# Altium schematic symbol library ComputeCores.SCHLIB: 10 symbols
Pins are listed as number, name and electrical type; pins without a type are passive.

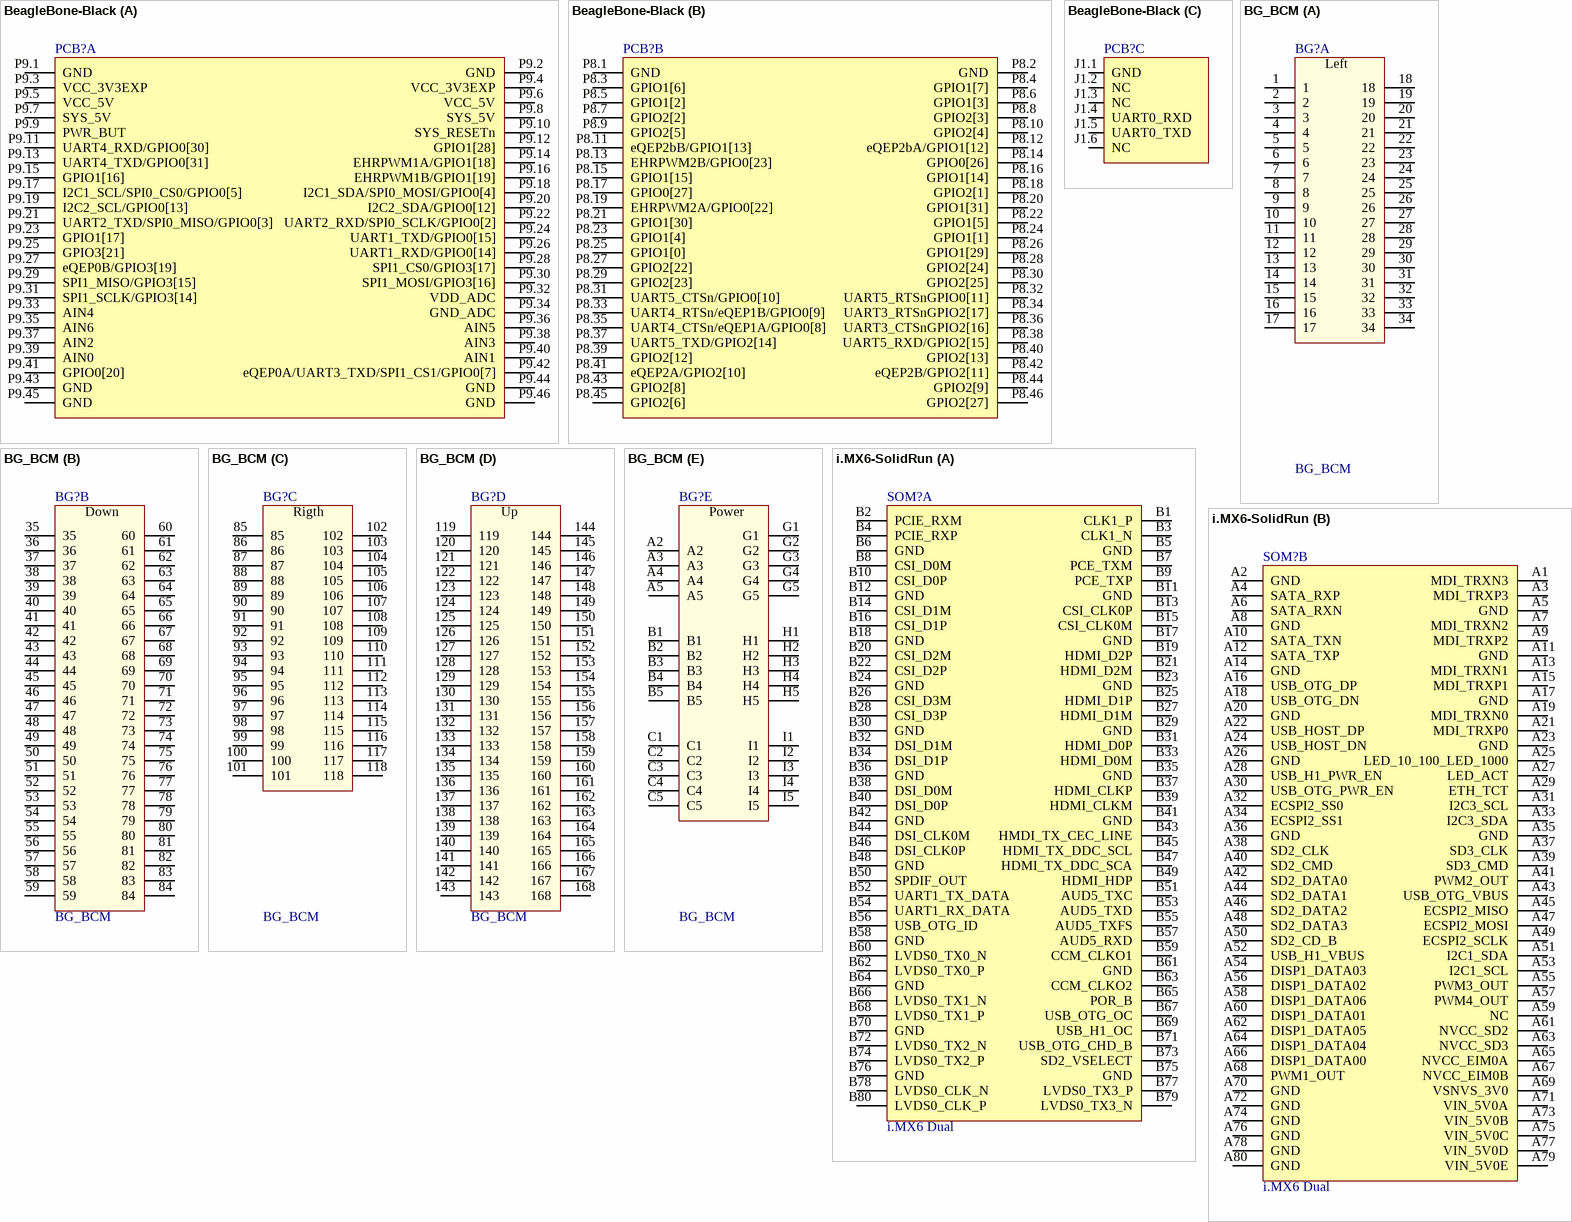
[diagram p0: symbols BeagleBone-Black to i.MX6-SolidRun]

## BeagleBone-Black
designator PCB?, comment BB-BBLK-000  (value not drawn)
BeagleBone Black Rev. C device with associated package to help create a cape. NOTE: Other considerations when making a Cape (mechanical allowances for tall BBB components, EEPROM requirements, and power ratings) can be found in the BBB System Reference Manual More information available at; Manuf1: Texas Instruments; Populated: Yes; Value: BB-BBLK-000; ROHS: Yes; ClassName: *; Code_JEDEC: *; Manuf1Partnumber: BB-BBLK-000; HelpURL: *; PackageReference: BeagleBone-Rev-C; Supplier 1: Newark; Supplier 2: Mouser; Supplier 3: Digi-Key; Supplier Part Number 1: 52X5548; Supplier Part Number 2: 595-BB-BBLK-000; Supplier Part Number 3: BB-BBLK-000-REVC-ND; LifeCycle: Checked
footprint BEAGLEBONE_BLACK
footprint BEAGLEBONE_BLACK - SMD
part A pins: P9.1 GND, P9.2 GND, P9.3 VCC_3V3EXP, P9.4 VCC_3V3EXP, P9.5 VCC_5V, P9.6 VCC_5V, P9.7 SYS_5V, P9.8 SYS_5V, P9.9 PWR_BUT, P9.10 SYS_RESETn, P9.11 UART4_RXD/GPIO0[30], P9.12 GPIO1[28], P9.13 UART4_TXD/GPIO0[31], P9.14 EHRPWM1A/GPIO1[18], P9.15 GPIO1[16], P9.16 EHRPWM1B/GPIO1[19], P9.17 I2C1_SCL/SPI0_CS0/GPIO0[5], P9.18 I2C1_SDA/SPI0_MOSI/GPIO0[4], P9.19 I2C2_SCL/GPIO0[13], P9.20 I2C2_SDA/GPIO0[12], P9.21 UART2_TXD/SPI0_MISO/GPIO0[3], P9.22 UART2_RXD/SPI0_SCLK/GPIO0[2], P9.23 GPIO1[17], P9.24 UART1_TXD/GPIO0[15], P9.25 GPIO3[21], P9.26 UART1_RXD/GPIO0[14], P9.27 eQEP0B/GPIO3[19], P9.28 SPI1_CS0/GPIO3[17], P9.29 SPI1_MISO/GPIO3[15], P9.30 SPI1_MOSI/GPIO3[16], P9.31 SPI1_SCLK/GPIO3[14], P9.32 VDD_ADC, P9.33 AIN4, P9.34 GND_ADC, P9.35 AIN6, P9.36 AIN5, P9.37 AIN2, P9.38 AIN3, P9.39 AIN0, P9.40 AIN1, P9.41 GPIO0[20], P9.42 eQEP0A/UART3_TXD/SPI1_CS1/GPIO0[7], P9.43 GND, P9.44 GND, P9.45 GND, P9.46 GND
part B pins: P8.1 GND, P8.2 GND, P8.3 GPIO1[6], P8.4 GPIO1[7], P8.5 GPIO1[2], P8.6 GPIO1[3], P8.7 GPIO2[2], P8.8 GPIO2[3], P8.9 GPIO2[5], P8.10 GPIO2[4], P8.11 eQEP2bB/GPIO1[13], P8.12 eQEP2bA/GPIO1[12], P8.13 EHRPWM2B/GPIO0[23], P8.14 GPIO0[26], P8.15 GPIO1[15], P8.16 GPIO1[14], P8.17 GPIO0[27], P8.18 GPIO2[1], P8.19 EHRPWM2A/GPIO0[22], P8.20 GPIO1[31], P8.21 GPIO1[30], P8.22 GPIO1[5], P8.23 GPIO1[4], P8.24 GPIO1[1], P8.25 GPIO1[0], P8.26 GPIO1[29], P8.27 GPIO2[22], P8.28 GPIO2[24], P8.29 GPIO2[23], P8.30 GPIO2[25], P8.31 UART5_CTSn/GPIO0[10], P8.32 UART5_RTSnGPIO0[11], P8.33 UART4_RTSn/eQEP1B/GPIO0[9], P8.34 UART3_RTSnGPIO2[17], P8.35 UART4_CTSn/eQEP1A/GPIO0[8], P8.36 UART3_CTSnGPIO2[16], P8.37 UART5_TXD/GPIO2[14], P8.38 UART5_RXD/GPIO2[15], P8.39 GPIO2[12], P8.40 GPIO2[13], P8.41 eQEP2A/GPIO2[10], P8.42 eQEP2B/GPIO2[11], P8.43 GPIO2[8], P8.44 GPIO2[9], P8.45 GPIO2[6], P8.46 GPIO2[27]
part C pins: J1.1 GND, J1.2 NC, J1.3 NC, J1.4 UART0_RXD, J1.5 UART0_TXD, J1.6 NC

## BG_BCM
designator BG?
Beaglecore; Populated: Yes; LifeCycle: Checked; ROHS: Yes; Value: BG_BCM
footprint BG_BCM (BeagleCoreModule)
part A pins: 1, 2, 3, 4, 5, 6, 7, 8, 9, 10, 11, 12, 13, 14, 15, 16, 17, 18, 19, 20, 21, 22, 23, 24, 25, 26, 27, 28, 29, 30, 31, 32, 33, 34
part B pins: 35, 36, 37, 38, 39, 40, 41, 42, 43, 44, 45, 46, 47, 48, 49, 50, 51, 52, 53, 54, 55, 56, 57, 58, 59, 60, 61, 62, 63, 64, 65, 66, 67, 68, 69, 70, 71, 72, 73, 74, 75, 76, 77, 78, 79, 80, 81, 82, 83, 84
part C pins: 85, 86, 87, 88, 89, 90, 91, 92, 93, 94, 95, 96, 97, 98, 99, 100, 101, 102, 103, 104, 105, 106, 107, 108, 109, 110, 111, 112, 113, 114, 115, 116, 117, 118
part D pins: 119, 120, 121, 122, 123, 124, 125, 126, 127, 128, 129, 130, 131, 132, 133, 134, 135, 136, 137, 138, 139, 140, 141, 142, 143, 144, 145, 146, 147, 148, 149, 150, 151, 152, 153, 154, 155, 156, 157, 158, 159, 160, 161, 162, 163, 164, 165, 166, 167, 168
part E pins: A2, A3, A4, A5, B1, B2, B3, B4, B5, C1, C2, C3, C4, C5, G1, G2, G3, G4, G5, H1, H2, H3, H4, H5, I1, I2, I3, I4, I5
part A text: Left
part B text: Down
part C text: Rigth
part D text: Up
part E text: Power

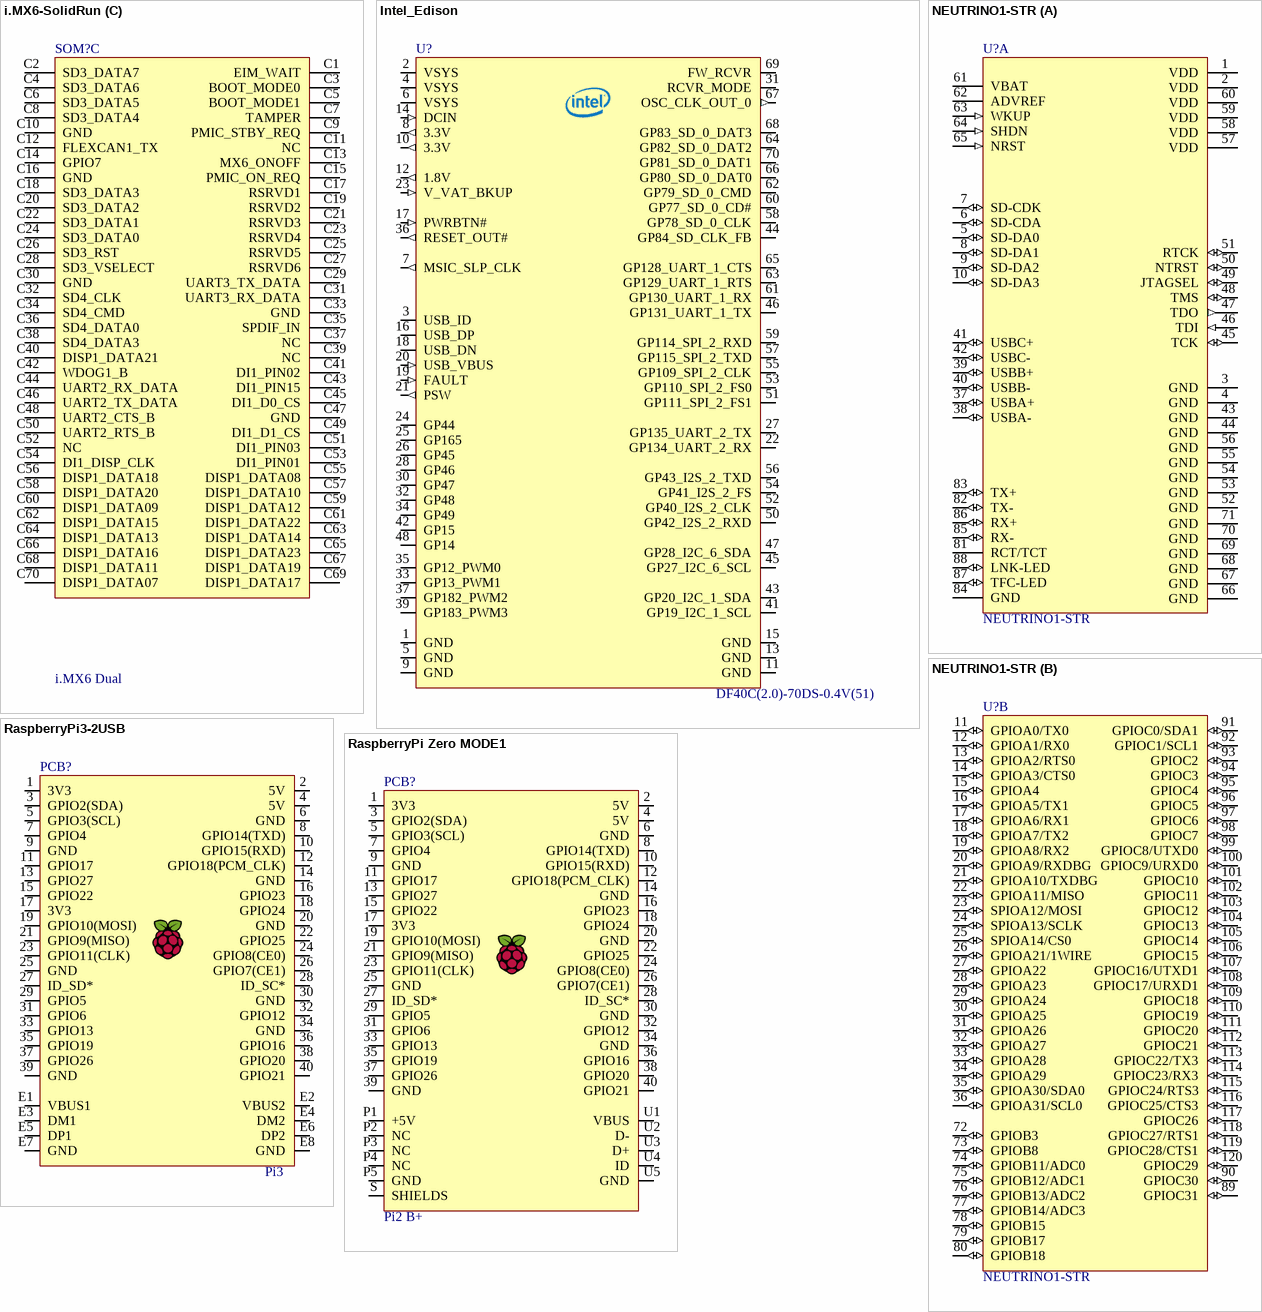
[diagram p1: symbols i.MX6-SolidRun to RaspberryPi Zero MODE1]

## i.MX6-SolidRun
designator SOM?, comment i.MX6 Dual
NXP I.MX6 SINGLE TO QUAD CORE ARM CORTEX A9 SOM; Populated: Yes; Memory: 2GB; Supplier 1: SolidRun; Value: i.MX6 Dual; ROHS: Yes; WiFi/Bluetooth: Yes; Storage: 8GB; Temperature Range: 0C to 70C; Supplier Part Number 1: SKU: SRMX6SOWT1D512E008V15C0
footprint SOLIDRUN SOM i1 - 3x80 (i.MX6 module i1 from SOLIDRUN)
part A pins: B1 CLK1_P, B2 PCIE_RXM, B3 CLK1_N, B4 PCIE_RXP, B5 GND, B6 GND, B7 PCE_TXM, B8 CSI_D0M, B9 PCE_TXP, B10 CSI_D0P, B11 GND, B12 GND, B13 CSI_CLK0P, B14 CSI_D1M, B15 CSI_CLK0M, B16 CSI_D1P, B17 GND, B18 GND, B19 HDMI_D2P, B20 CSI_D2M, B21 HDMI_D2M, B22 CSI_D2P, B23 GND, B24 GND, B25 HDMI_D1P, B26 CSI_D3M, B27 HDMI_D1M, B28 CSI_D3P, B29 GND, B30 GND, B31 HDMI_D0P, B32 DSI_D1M, B33 HDMI_D0M, B34 DSI_D1P, B35 GND, B36 GND, B37 HDMI_CLKP, B38 DSI_D0M, B39 HDMI_CLKM, B40 DSI_D0P, B41 GND, B42 GND, B43 HMDI_TX_CEC_LINE, B44 DSI_CLK0M, B45 HDMI_TX_DDC_SCL, B46 DSI_CLK0P, B47 HDMI_TX_DDC_SCA, B48 GND, B49 HDMI_HDP, B50 SPDIF_OUT, B51 AUD5_TXC, B52 UART1_TX_DATA, B53 AUD5_TXD, B54 UART1_RX_DATA, B55 AUD5_TXFS, B56 USB_OTG_ID, B57 AUD5_RXD, B58 GND, B59 CCM_CLKO1, B60 LVDS0_TX0_N, B61 GND, B62 LVDS0_TX0_P, B63 CCM_CLKO2, B64 GND, B65 POR_B, B66 LVDS0_TX1_N, B67 USB_OTG_OC, B68 LVDS0_TX1_P, B69 USB_H1_OC, B70 GND, B71 USB_OTG_CHD_B, B72 LVDS0_TX2_N, B73 SD2_VSELECT, B74 LVDS0_TX2_P, B75 GND, B76 GND, B77 LVDS0_TX3_P, B78 LVDS0_CLK_N, B79 LVDS0_TX3_N, B80 LVDS0_CLK_P
part B pins: A1 MDI_TRXN3, A2 GND, A3 MDI_TRXP3, A4 SATA_RXP, A5 GND, A6 SATA_RXN, A7 MDI_TRXN2, A8 GND, A9 MDI_TRXP2, A10 SATA_TXN, A11 GND, A12 SATA_TXP, A13 MDI_TRXN1, A14 GND, A15 MDI_TRXP1, A16 USB_OTG_DP, A17 GND, A18 USB_OTG_DN, A19 MDI_TRXN0, A20 GND, A21 MDI_TRXP0, A22 USB_HOST_DP, A23 GND, A24 USB_HOST_DN, A25 LED_10_100_LED_1000, A26 GND, A27 LED_ACT, A28 USB_H1_PWR_EN, A29 ETH_TCT, A30 USB_OTG_PWR_EN, A31 I2C3_SCL, A32 ECSPI2_SS0, A33 I2C3_SDA, A34 ECSPI2_SS1, A35 GND, A36 GND, A37 SD3_CLK, A38 SD2_CLK, A39 SD3_CMD, A40 SD2_CMD, A41 PWM2_OUT, A42 SD2_DATA0, A43 USB_OTG_VBUS, A44 SD2_DATA1, A45 ECSPI2_MISO, A46 SD2_DATA2, A47 ECSPI2_MOSI, A48 SD2_DATA3, A49 ECSPI2_SCLK, A50 SD2_CD_B, A51 I2C1_SDA, A52 USB_H1_VBUS, A53 I2C1_SCL, A54 DISP1_DATA03, A55 PWM3_OUT, A56 DISP1_DATA02, A57 PWM4_OUT, A58 DISP1_DATA06, A59 NC, A60 DISP1_DATA01, A61 NVCC_SD2, A62 DISP1_DATA05, A63 NVCC_SD3, A64 DISP1_DATA04, A65 NVCC_EIM0A, A66 DISP1_DATA00, A67 NVCC_EIM0B, A68 PWM1_OUT, A69 VSNVS_3V0, A70 GND, A71 VIN_5V0A, A72 GND, A73 VIN_5V0B, A74 GND, A75 VIN_5V0C, A76 GND, A77 VIN_5V0D, A78 GND, A79 VIN_5V0E, A80 GND
part C pins: C1 EIM_WAIT, C2 SD3_DATA7, C3 BOOT_MODE0, C4 SD3_DATA6, C5 BOOT_MODE1, C6 SD3_DATA5, C7 TAMPER, C8 SD3_DATA4, C9 PMIC_STBY_REQ, C10 GND, C11 NC, C12 FLEXCAN1_TX, C13 MX6_ONOFF, C14 GPIO7, C15 PMIC_ON_REQ, C16 GND, C17 RSRVD1, C18 SD3_DATA3, C19 RSRVD2, C20 SD3_DATA2, C21 RSRVD3, C22 SD3_DATA1, C23 RSRVD4, C24 SD3_DATA0, C25 RSRVD5, C26 SD3_RST, C27 RSRVD6, C28 SD3_VSELECT, C29 UART3_TX_DATA, C30 GND, C31 UART3_RX_DATA, C32 SD4_CLK, C33 GND, C34 SD4_CMD, C35 SPDIF_IN, C36 SD4_DATA0, C37 NC, C38 SD4_DATA3, C39 NC, C40 DISP1_DATA21, C41 DI1_PIN02, C42 WDOG1_B, C43 DI1_PIN15, C44 UART2_RX_DATA, C45 DI1_D0_CS, C46 UART2_TX_DATA, C47 GND, C48 UART2_CTS_B, C49 DI1_D1_CS, C50 UART2_RTS_B, C51 DI1_PIN03, C52 NC, C53 DI1_PIN01, C54 DI1_DISP_CLK, C55 DISP1_DATA08, C56 DISP1_DATA18, C57 DISP1_DATA10, C58 DISP1_DATA20, C59 DISP1_DATA12, C60 DISP1_DATA09, C61 DISP1_DATA22, C62 DISP1_DATA15, C63 DISP1_DATA14, C64 DISP1_DATA13, C65 DISP1_DATA23, C66 DISP1_DATA16, C67 DISP1_DATA19, C68 DISP1_DATA11, C69 DISP1_DATA17 (power), C70 DISP1_DATA07

## Intel_Edison
designator U?, comment DF40C(2.0)-70DS-0.4V(51)
System-On-Modules - SOM Intel Edison Module IoT Internal Antenna; Manuf1Partnumber: EDI2.SPON.AL.S; Populated: Yes; Supplier 1: Digi-Key; Supplier Part Number 1: H11908CT-ND; Manuf1: Intel; ROHS: Yes; LifeCycle: Checked; HelpURL: http://download.intel.com/support/edison/sb/edisonmodule_hg_331189004.pdf; Supplier 2: Mouser; LatestRevisionDate: 02-02-2016; Value: DF40C(2.0)-70DS-0.4V(51); Supplier Part Number 2: 607-EDI2.SPON.AL.S
footprint EDISON_DAUGHTER
footprint DF40-XC-(X.X)-70DS-0.4V(51)
pins: 1 GND (power), 2 VSYS (power), 3 USB_ID, 4 VSYS (power), 5 GND (power), 6 VSYS (power), 7 MSIC_SLP_CLK (out), 8 3.3V (out), 9 GND (power), 10 3.3V (out), 11 GND (power), 12 1.8V (out), 13 GND (power), 14 DCIN (in), 15 GND (power), 16 USB_DP (io), 17 PWRBTN# (in), 18 USB_DN (io), 19 FAULT (in), 20 USB_VBUS (in), 21 PSW (out), 22 GP134_UART_2_RX (io), 23 V_VAT_BKUP (in), 24 GP44 (io), 25 GP165 (io), 26 GP45 (io), 27 GP135_UART_2_TX (io), 28 GP46 (io), 30 GP47 (io), 31 RCVR_MODE, 32 GP48 (io), 33 GP13_PWM1 (io), 34 GP49 (io), 35 GP12_PWM0 (io), 36 RESET_OUT# (out), 37 GP182_PWM2 (io), 39 GP183_PWM3 (io), 41 GP19_I2C_1_SCL (io), 42 GP15 (io), 43 GP20_I2C_1_SDA (io), 44 GP84_SD_CLK_FB (io), 45 GP27_I2C_6_SCL (io), 46 GP131_UART_1_TX (io), 47 GP28_I2C_6_SDA (io), 48 GP14 (io), 50 GP42_I2S_2_RXD (io), 51 GP111_SPI_2_FS1 (io), 52 GP40_I2S_2_CLK (io), 53 GP110_SPI_2_FS0 (io), 54 GP41_I2S_2_FS (io), 55 GP109_SPI_2_CLK (io), 56 GP43_I2S_2_TXD (io), 57 GP115_SPI_2_TXD (io), 58 GP78_SD_0_CLK (io), 59 GP114_SPI_2_RXD (io), 60 GP77_SD_0_CD# (io), 61 GP130_UART_1_RX (io), 62 GP79_SD_0_CMD (io), 63 GP129_UART_1_RTS (io), 64 GP82_SD_0_DAT2 (io), 65 GP128_UART_1_CTS (io), 66 GP80_SD_0_DAT0 (io), 67 OSC_CLK_OUT_0 (out), 68 GP83_SD_0_DAT3 (io), 69 FW_RCVR, 70 GP81_SD_0_DAT1 (io)

## NEUTRINO1-STR
designator U?
System On Module - 400MHz - 1GBRAM; Manufacturer: COLCIRCUITOS; RAM Size: 32KB; Interface: I2C,SPI,USB,Ethernet,IrDA,MMC,UART,USART,LIN,EBI/EMI,2-Wire; Number of I/Os: 105; Max Supply Voltage: 3.3V; Min Supply Voltage: 900mV; Oscillator Type: Internal; Data Bus Width: 32b; Memory Type: RAM; Memory Size: 1GB; Peripherals: POR,PWM,WDT,DMA; Core Architecture: ARM; Number of PWM Channels: 4; Number of Timers/Counters: 6; Number of USB Channels: 1; Number of ADC Channels: 12; Watchdog Timer: Yes; Manufacturer Part Number: NEUTRINO1-STR; Mount: Surface Mount; Case/Package: 120-LCC; Number of Pins: 217; Contact Plating: Copper,Tin,Silver; Min Operating Temperature: -40°C; Max Operating Temperature: 85°C; Packaging: Tray; Frequency: 400MHz; Package Quantity: 126; Max Frequency: 400MHz; Number of Programmable I/O: 105; Length: 15.05mm; Height: 0.9mm; Width: 15.05mm; Radiation Hardening: No; Lead Free: Lead Free; REACH SVHC: No SVHC; ComponentLink1URL: https://datasheet.ciiva.com/7543/atmel-11032-32-bit-arm926-microcontroller-sam9g25-datasheet-7543809.pdf; ComponentLink1Description: https://datasheet.ciiva.com/7543/atmel-11032-32-bit-arm926-microcontroller-sam9g25-datasheet-7543809.pdf; ComponentLink2URL: https://datasheet.ciiva.com/1157/1503974-1157157.pdf; ComponentLink2Description: https://datasheet.ciiva.com/1157/1503974-1157157.pdf; Value: NEUTRINO1-STR
footprint NEUTRINO1
part A pins: 1 VDD, 2 VDD, 3 GND, 4 GND, 5 SD-DA0 (io), 6 SD-CDA (io), 7 SD-CDK (io), 8 SD-DA1 (io), 9 SD-DA2 (io), 10 SD-DA3 (io), 37 USBA+ (io), 38 USBA- (io), 39 USBB+ (io), 40 USBB- (io), 41 USBC+ (io), 42 USBC- (io), 43 GND, 44 GND, 45 TCK (io), 46 TDI (in), 47 TDO (out), 48 TMS (io), 49 JTAGSEL (io), 50 NTRST (io), 51 RTCK (io), 52 GND, 53 GND, 54 GND, 55 GND, 56 GND, 57 VDD, 58 VDD, 59 VDD, 60 VDD, 61 VBAT, 62 ADVREF, 63 WKUP (in), 64 SHDN (in), 65 NRST (in), 66 GND, 67 GND, 68 GND, 69 GND, 70 GND, 71 GND, 81 RCT/TCT, 82 TX- (io), 83 TX+ (io), 84 GND, 85 RX- (io), 86 RX+ (io), 87 TFC-LED (io), 88 LNK-LED (io)
part B pins: 11 GPIOA0/TX0 (io), 12 GPIOA1/RX0 (io), 13 GPIOA2/RTS0 (io), 14 GPIOA3/CTS0 (io), 15 GPIOA4 (io), 16 GPIOA5/TX1 (io), 17 GPIOA6/RX1 (io), 18 GPIOA7/TX2 (io), 19 GPIOA8/RX2 (io), 20 GPIOA9/RXDBG (io), 21 GPIOA10/TXDBG (io), 22 GPIOA11/MISO (io), 23 SPIOA12/MOSI (io), 24 SPIOA13/SCLK (io), 25 SPIOA14/CS0 (io), 26 GPIOA21/1WIRE (io), 27 GPIOA22 (io), 28 GPIOA23 (io), 29 GPIOA24 (io), 30 GPIOA25 (io), 31 GPIOA26 (io), 32 GPIOA27 (io), 33 GPIOA28 (io), 34 GPIOA29 (io), 35 GPIOA30/SDA0 (io), 36 GPIOA31/SCL0 (io), 72 GPIOB3 (io), 73 GPIOB8 (io), 74 GPIOB11/ADC0 (io), 75 GPIOB12/ADC1 (io), 76 GPIOB13/ADC2 (io), 77 GPIOB14/ADC3 (io), 78 GPIOB15 (io), 79 GPIOB17 (io), 80 GPIOB18 (io), 89 GPIOC31 (io), 90 GPIOC30 (io), 91 GPIOC0/SDA1 (io), 92 GPIOC1/SCL1 (io), 93 GPIOC2 (io), 94 GPIOC3 (io), 95 GPIOC4 (io), 96 GPIOC5 (io), 97 GPIOC6 (io), 98 GPIOC7 (io), 99 GPIOC8/UTXD0 (io), 100 GPIOC9/URXD0 (io), 101 GPIOC10 (io), 102 GPIOC11 (io), 103 GPIOC12 (io), 104 GPIOC13 (io), 105 GPIOC14 (io), 106 GPIOC15 (io), 107 GPIOC16/UTXD1 (io), 108 GPIOC17/URXD1 (io), 109 GPIOC18 (io), 110 GPIOC19 (io), 111 GPIOC20 (io), 112 GPIOC21 (io), 113 GPIOC22/TX3 (io), 114 GPIOC23/RX3 (io), 115 GPIOC24/RTS3 (io), 116 GPIOC25/CTS3 (io), 117 GPIOC26 (io), 118 GPIOC27/RTS1 (io), 119 GPIOC28/CTS1 (io), 120 GPIOC29 (io)

## RaspberryPi3-2USB
designator PCB?, comment Pi3
Broadcom BCM2836 Arm7 Quad Core @900MHz/1GB RAM Processor Single Board Computer; Manuf1: Raspberry Pi Foundation; Manuf1Partnumber: Pi3 Model B; Populated: Yes; Value: Pi3; Supplier 1: Newark; Supplier Part Number 1: 38Y6467; LifeCycle: Checked; HelpURL: https://www.raspberrypi.org/documentation/hardware/raspberrypi/; ROHS: Yes
footprint RPI3 - 2USB
pins: 1 3V3, 2 5V (power), 3 GPIO2(SDA) (io), 4 5V (power), 5 GPIO3(SCL) (io), 6 GND, 7 GPIO4 (io), 8 GPIO14(TXD) (io), 9 GND, 10 GPIO15(RXD) (io), 11 GPIO17 (io), 12 GPIO18(PCM_CLK) (io), 13 GPIO27 (io), 14 GND, 15 GPIO22 (io), 16 GPIO23 (io), 17 3V3, 18 GPIO24 (io), 19 GPIO10(MOSI) (io), 20 GND, 21 GPIO9(MISO) (io), 22 GPIO25 (io), 23 GPIO11(CLK) (io), 24 GPIO8(CE0) (io), 25 GND, 26 GPIO7(CE1) (io), 27 ID_SD*, 28 ID_SC*, 29 GPIO5 (io), 30 GND, 31 GPIO6 (io), 32 GPIO12 (io), 33 GPIO13 (io), 34 GND, 35 GPIO19 (io), 36 GPIO16 (io), 37 GPIO26 (io), 38 GPIO20 (io), 39 GND, 40 GPIO21 (io), E1 VBUS1, E2 VBUS2, E3 DM1 (io), E4 DM2 (io), E5 DP1 (io), E6 DP2 (io), E7 GND, E8 GND

## RaspberryPi Zero MODE1
designator PCB?, comment Pi2 B+
Broadcom BCM2836 Arm7 Quad Core @900MHz/1GB RAM Processor Single Board Computer; Manuf1: Raspberry Pi Foundation; Manuf1Partnumber: Pi2 Model B; Populated: Yes; Value: Pi2 B+; LifeCycle: Checked; HelpURL: https://www.raspberrypi.org/documentation/hardware/raspberrypi/; ROHS: Yes
footprint RPI-ZERO - MODE1
footprint RPI-ZERO - MODE2
footprint RPI-ZERO - MODE4
pins: 1 3V3, 2 5V (power), 3 GPIO2(SDA) (io), 4 5V (power), 5 GPIO3(SCL) (io), 6 GND, 7 GPIO4 (io), 8 GPIO14(TXD) (io), 9 GND, 10 GPIO15(RXD) (io), 11 GPIO17 (io), 12 GPIO18(PCM_CLK) (io), 13 GPIO27 (io), 14 GND, 15 GPIO22 (io), 16 GPIO23 (io), 17 3V3, 18 GPIO24 (io), 19 GPIO10(MOSI) (io), 20 GND, 21 GPIO9(MISO) (io), 22 GPIO25 (io), 23 GPIO11(CLK) (io), 24 GPIO8(CE0) (io), 25 GND, 26 GPIO7(CE1) (io), 27 ID_SD*, 28 ID_SC*, 29 GPIO5 (io), 30 GND, 31 GPIO6 (io), 32 GPIO12 (io), 33 GPIO13 (io), 34 GND, 35 GPIO19 (io), 36 GPIO16 (io), 37 GPIO26 (io), 38 GPIO20 (io), 39 GND, 40 GPIO21 (io), P1 +5V, P2 NC, P3 NC, P4 NC, P5 GND, S SHIELDS, U1 VBUS, U2 D-, U3 D+, U4 ID, U5 GND

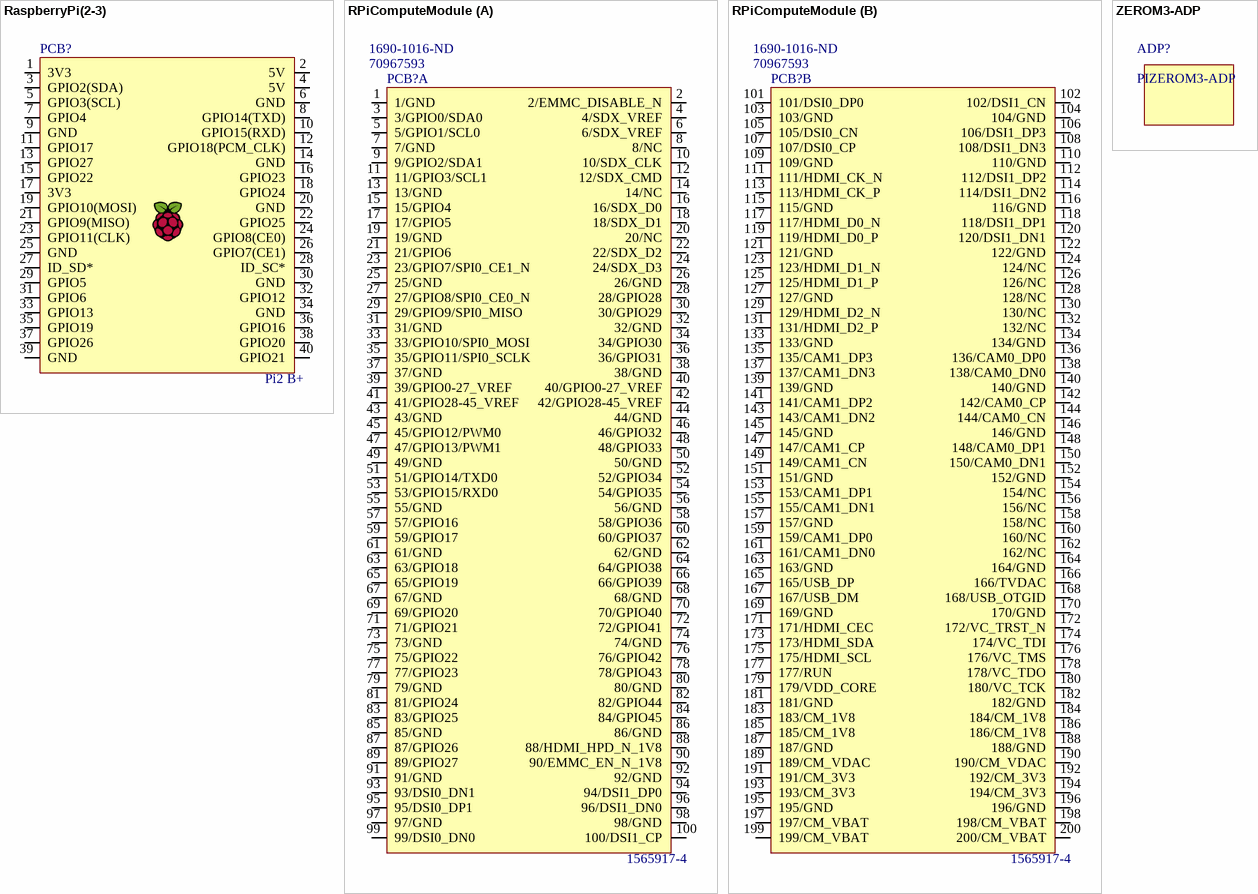
[diagram p2: symbols RaspberryPi(2-3) to ZEROM3-ADP]

## RaspberryPi(2-3)
designator PCB?, comment Pi2 B+
Broadcom BCM2836 Arm7 Quad Core @900MHz/1GB RAM Processor Single Board Computer; Manuf1: Raspberry Pi Foundation; Manuf1Partnumber: Pi2 Model B; Populated: Yes; Value: Pi2 B+; Supplier 1: Newark; Supplier Part Number 1: 38Y6467; LifeCycle: Checked; HelpURL: https://www.raspberrypi.org/documentation/hardware/raspberrypi/; ROHS: Yes
footprint RPI2
footprint RPI-ZERO
footprint RPI3
pins: 1 3V3, 2 5V (power), 3 GPIO2(SDA) (io), 4 5V (power), 5 GPIO3(SCL) (io), 6 GND, 7 GPIO4 (io), 8 GPIO14(TXD) (io), 9 GND, 10 GPIO15(RXD) (io), 11 GPIO17 (io), 12 GPIO18(PCM_CLK) (io), 13 GPIO27 (io), 14 GND, 15 GPIO22 (io), 16 GPIO23 (io), 17 3V3, 18 GPIO24 (io), 19 GPIO10(MOSI) (io), 20 GND, 21 GPIO9(MISO) (io), 22 GPIO25 (io), 23 GPIO11(CLK) (io), 24 GPIO8(CE0) (io), 25 GND, 26 GPIO7(CE1) (io), 27 ID_SD*, 28 ID_SC*, 29 GPIO5 (io), 30 GND, 31 GPIO6 (io), 32 GPIO12 (io), 33 GPIO13 (io), 34 GND, 35 GPIO19 (io), 36 GPIO16 (io), 37 GPIO26 (io), 38 GPIO20 (io), 39 GND, 40 GPIO21 (io)

## RPiComputeModule
designator PCB?, comment 1565917-4  Supplier Part Number 1: 70967593  Supplier Part Number 2: 1690-1016-ND
Raspberry Pi Compute Module; Manuf1: Raspberry Pi Foundation; Populated: Yes; Value: 1565917-4; ROHS: Yes; ClassName: *; LifeCycle: Checked; Code_JEDEC: *; HelpURL: *; Manuf1Partnumber: Raspberry Pi Compute Module; Supplier 1: Allied; Supplier 2: Digi-Key
footprint RPI_COMPUTE
part A pins: 1 1/GND, 2 2/EMMC_DISABLE_N, 3 3/GPIO0/SDA0, 4 4/SDX_VREF, 5 5/GPIO1/SCL0, 6 6/SDX_VREF, 7 7/GND, 8 8/NC, 9 9/GPIO2/SDA1, 10 10/SDX_CLK, 11 11/GPIO3/SCL1, 12 12/SDX_CMD, 13 13/GND, 14 14/NC, 15 15/GPIO4, 16 16/SDX_D0, 17 17/GPIO5, 18 18/SDX_D1, 19 19/GND, 20 20/NC, 21 21/GPIO6, 22 22/SDX_D2, 23 23/GPIO7/SPI0_CE1_N, 24 24/SDX_D3, 25 25/GND, 26 26/GND, 27 27/GPIO8/SPI0_CE0_N, 28 28/GPIO28, 29 29/GPIO9/SPI0_MISO, 30 30/GPIO29, 31 31/GND, 32 32/GND, 33 33/GPIO10/SPI0_MOSI, 34 34/GPIO30, 35 35/GPIO11/SPI0_SCLK, 36 36/GPIO31, 37 37/GND, 38 38/GND, 39 39/GPIO0-27_VREF, 40 40/GPIO0-27_VREF, 41 41/GPIO28-45_VREF, 42 42/GPIO28-45_VREF, 43 43/GND, 44 44/GND, 45 45/GPIO12/PWM0, 46 46/GPIO32, 47 47/GPIO13/PWM1, 48 48/GPIO33, 49 49/GND, 50 50/GND, 51 51/GPIO14/TXD0, 52 52/GPIO34, 53 53/GPIO15/RXD0, 54 54/GPIO35, 55 55/GND, 56 56/GND, 57 57/GPIO16, 58 58/GPIO36, 59 59/GPIO17, 60 60/GPIO37, 61 61/GND, 62 62/GND, 63 63/GPIO18, 64 64/GPIO38, 65 65/GPIO19, 66 66/GPIO39, 67 67/GND, 68 68/GND, 69 69/GPIO20, 70 70/GPIO40, 71 71/GPIO21, 72 72/GPIO41, 73 73/GND, 74 74/GND, 75 75/GPIO22, 76 76/GPIO42, 77 77/GPIO23, 78 78/GPIO43, 79 79/GND, 80 80/GND, 81 81/GPIO24, 82 82/GPIO44, 83 83/GPIO25, 84 84/GPIO45, 85 85/GND, 86 86/GND, 87 87/GPIO26, 88 88/HDMI_HPD_N_1V8, 89 89/GPIO27, 90 90/EMMC_EN_N_1V8, 91 91/GND, 92 92/GND, 93 93/DSI0_DN1, 94 94/DSI1_DP0, 95 95/DSI0_DP1, 96 96/DSI1_DN0, 97 97/GND, 98 98/GND, 99 99/DSI0_DN0, 100 100/DSI1_CP
part B pins: 101 101/DSI0_DP0, 102 102/DSI1_CN, 103 103/GND, 104 104/GND, 105 105/DSI0_CN, 106 106/DSI1_DP3, 107 107/DSI0_CP, 108 108/DSI1_DN3, 109 109/GND, 110 110/GND, 111 111/HDMI_CK_N, 112 112/DSI1_DP2, 113 113/HDMI_CK_P, 114 114/DSI1_DN2, 115 115/GND, 116 116/GND, 117 117/HDMI_D0_N, 118 118/DSI1_DP1, 119 119/HDMI_D0_P, 120 120/DSI1_DN1, 121 121/GND, 122 122/GND, 123 123/HDMI_D1_N, 124 124/NC, 125 125/HDMI_D1_P, 126 126/NC, 127 127/GND, 128 128/NC, 129 129/HDMI_D2_N, 130 130/NC, 131 131/HDMI_D2_P, 132 132/NC, 133 133/GND, 134 134/GND, 135 135/CAM1_DP3, 136 136/CAM0_DP0, 137 137/CAM1_DN3, 138 138/CAM0_DN0, 139 139/GND, 140 140/GND, 141 141/CAM1_DP2, 142 142/CAM0_CP, 143 143/CAM1_DN2, 144 144/CAM0_CN, 145 145/GND, 146 146/GND, 147 147/CAM1_CP, 148 148/CAM0_DP1, 149 149/CAM1_CN, 150 150/CAM0_DN1, 151 151/GND, 152 152/GND, 153 153/CAM1_DP1, 154 154/NC, 155 155/CAM1_DN1, 156 156/NC, 157 157/GND, 158 158/NC, 159 159/CAM1_DP0, 160 160/NC, 161 161/CAM1_DN0, 162 162/NC, 163 163/GND, 164 164/GND, 165 165/USB_DP, 166 166/TVDAC, 167 167/USB_DM, 168 168/USB_OTGID, 169 169/GND, 170 170/GND, 171 171/HDMI_CEC, 172 172/VC_TRST_N, 173 173/HDMI_SDA, 174 174/VC_TDI, 175 175/HDMI_SCL, 176 176/VC_TMS, 177 177/RUN, 178 178/VC_TDO, 179 179/VDD_CORE, 180 180/VC_TCK, 181 181/GND, 182 182/GND, 183 183/CM_1V8, 184 184/CM_1V8, 185 185/CM_1V8, 186 186/CM_1V8, 187 187/GND, 188 188/GND, 189 189/CM_VDAC, 190 190/CM_VDAC, 191 191/CM_3V3, 192 192/CM_3V3, 193 193/CM_3V3, 194 194/CM_3V3, 195 195/GND, 196 196/GND, 197 197/CM_VBAT, 198 198/CM_VBAT, 199 199/CM_VBAT, 200 200/CM_VBAT

## ZEROM3-ADP
designator ADP?, comment PIZEROM3-ADP
footprint ZEROM3-USBADP
footprint ZEROM3-USBADP2